# Altium integrated library common0.IntLib: 4 symbols
Pins are listed as number, name and electrical type; pins without a type are passive.

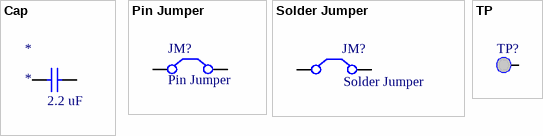
[diagram p0: symbols Cap to TP]

## Cap
designator *  value 2.2 uF
footprint Cap-0.2 (Ceramic Capacitor, 0.2in Spacing)
pins: 1, 2

## Pin Jumper
designator JM?
Shorted Pin Jumper; Published: 24-Mar-1999; LatestRevisionDate: 17-Jul-2002; LatestRevisionNote: Re-released for DXP Platform.; PackageReference: RAD-0.2; Publisher: Altium Limited; PackageDescription: Radial Cap, Thru-Hole; 2 Leads; 0.2 in Pin Spacing
footprint HDR1X2 (Connector; Header; 2 Position)
pins: 1 C1, 2 C2

## Solder Jumper
designator JM?
Shorted Solder Jumper
footprint Solder Jumper
pins: 1, 2

## TP
designator TP?  (value not drawn)
footprint TP_TH
footprint TP_SMT
pins: 1